# Altium footprint library Altium_Library.PcbLib: 12 footprints
Each footprint in its own frame and in the unit in brackets; x right, y up, seen from the top. Pads: shape width x height; smd on the part's side, far side on the other; paste and mask are expansions set on the pad; w line width, h text height; cw(c..) or ccw(c..) is an arc to the next point about the centre after c.
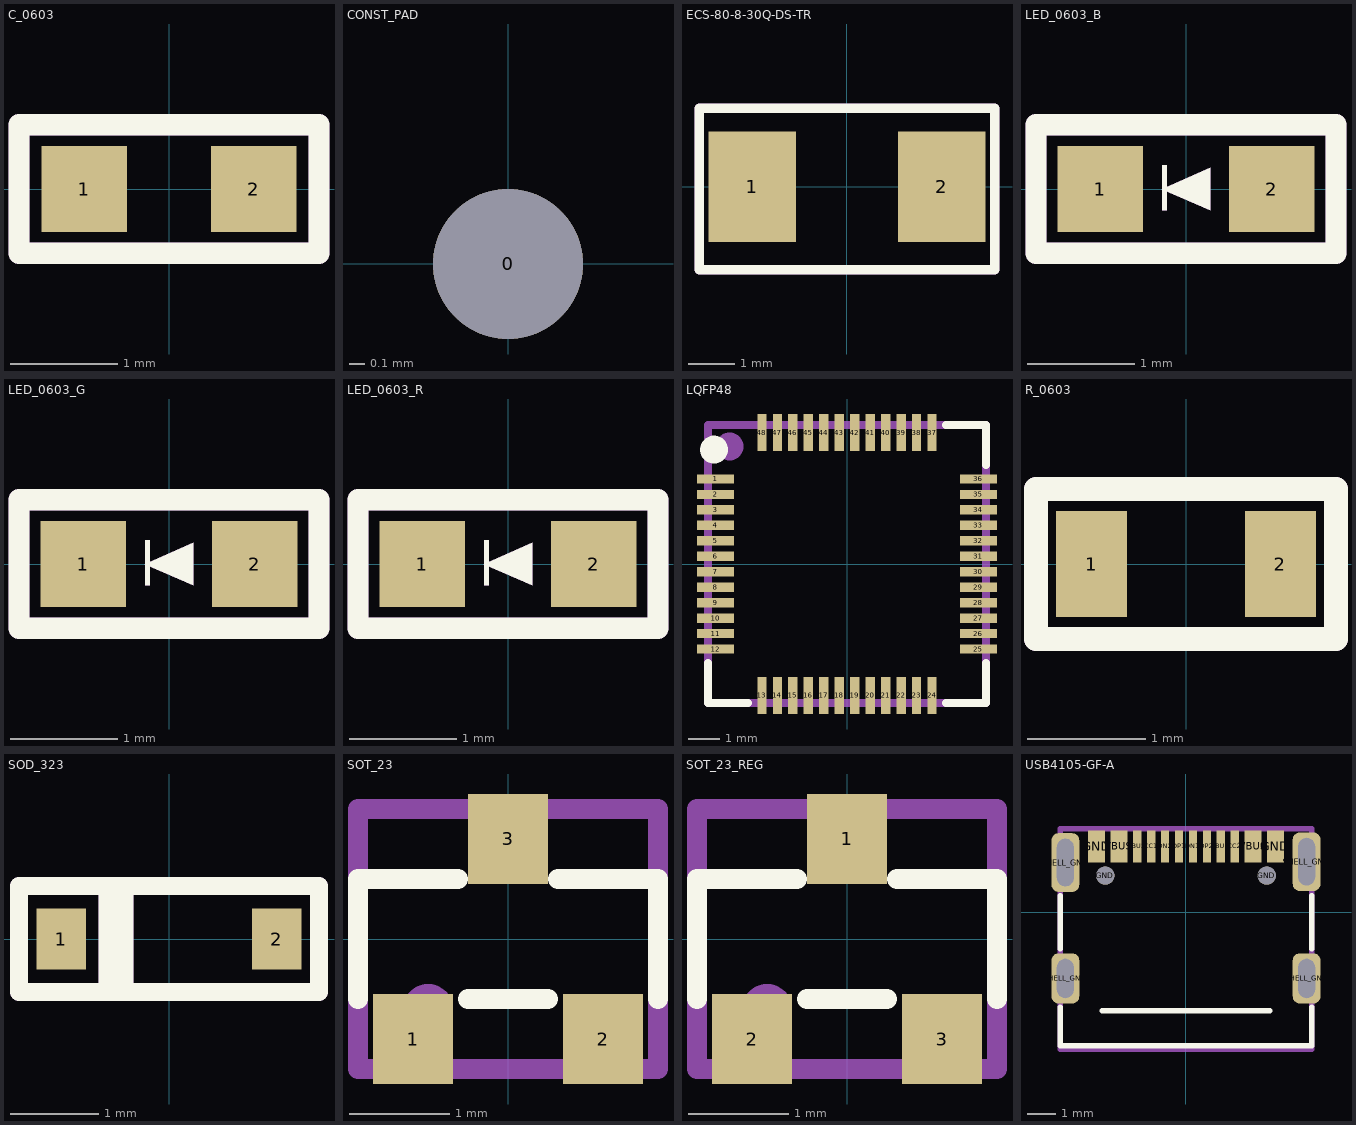
[diagram p0: the footprints below, top view; thin cyan lines are the x and y axes]

## C_0603 [mm]
pads (2):
  rect 0.8x0.8 smd: 1(-0.79,0) 2(0.79,0)
Top Overlay:
  lines w0.2: -1.4,-0.6 1.4,-0.6 1.4,0.6 -1.4,0.6 -1.4,-0.6
Top Designator:
  lines w0.2: -1.4,-0.6 1.4,-0.6 1.4,0.6 -1.4,0.6 -1.4,-0.6
  text ".Designator" at -1,-0.075 h1.2
3D body "CAPC1608X55N EIA 0603.step": height 0.55, standoff 0, extent -0.8,-0.4 0.8,0.4

## CONST_PAD [mm]
pads (1):
  round 1 hole 1: 0(0,0)
Multi-Layer:
  region: -0.5,0 0.5,0 0.5,1 0.5,1.099 0.424,1.283 0.283,1.424 0.099,1.5 -0.099,1.5 -0.283,1.424 -0.424,1.283 -0.5,1.099 -0.5,1

## ECS-80-8-30Q-DS-TR [mm]
pads (2):
  rect 1.9x2.4 smd: 1(-2.05,0) 2(2.05,0)
Top Overlay:
  lines w0.2: -3.2,-1.8 3.2,-1.8 3.2,1.7 -3.2,1.7 -3.2,-1.8
Top Designator:
  lines w0.2: -3.2,-1.8 3.2,-1.8 3.2,1.7 -3.2,1.7 -3.2,-1.8
  text ".Designator" at -1,-0.075 h1.2
3D body "ECX-64.step": height 1.1, standoff -0.01, extent -3,-1.75 3,1.75

## LED_0603_B [mm]
pads (2):
  rect 0.8x0.8 smd: 1(-0.8,0) 2(0.8,0)
Top Overlay:
  rectangle: -0.225,-0.2 -0.175,0.225
  region: 0.225,-0.2 -0.225,0 0.225,0.2
  lines w0.2: -1.4,-0.6 1.4,-0.6 1.4,0.6 -1.4,0.6 -1.4,-0.6
Top Designator:
  rectangle: -0.225,-0.2 -0.175,0.225
  region: -0.225,0 0.225,0.2 0.225,-0.2
  lines w0.2: -1.4,-0.6 1.4,-0.6 1.4,0.6 -1.4,0.6 -1.4,-0.6
  text ".Designator" at -1,-0.175 h1.2
3D body "LED_0603_B.STEP": height 0.6, standoff 0, extent -0.8,-0.4 0.8,0.4

## LED_0603_G [mm]
pads (2):
  rect 0.8x0.8 smd: 1(-0.8,0) 2(0.8,0)
Top Overlay:
  rectangle: -0.225,-0.2 -0.175,0.225
  region: 0.225,-0.2 -0.225,0 0.225,0.2
  lines w0.2: -1.4,-0.6 1.4,-0.6 1.4,0.6 -1.4,0.6 -1.4,-0.6
Top Designator:
  rectangle: -0.225,-0.2 -0.175,0.225
  region: -0.225,0 0.225,0.2 0.225,-0.2
  lines w0.2: -1.4,-0.6 1.4,-0.6 1.4,0.6 -1.4,0.6 -1.4,-0.6
  text ".Designator" at -1,-0.175 h1.2
3D body "LED_0603_G.STEP": height 0.6, standoff 0, extent -0.8,-0.4 0.8,0.4

## LED_0603_R [mm]
pads (2):
  rect 0.8x0.8 smd: 1(-0.8,0) 2(0.8,0)
Top Overlay:
  rectangle: -0.225,-0.2 -0.175,0.225
  region: 0.225,-0.2 -0.225,0 0.225,0.2
  lines w0.2: -1.4,-0.6 1.4,-0.6 1.4,0.6 -1.4,0.6 -1.4,-0.6
Top Designator:
  rectangle: -0.225,-0.2 -0.175,0.225
  region: -0.225,0 0.225,0.2 0.225,-0.2
  lines w0.2: -1.4,-0.6 1.4,-0.6 1.4,0.6 -1.4,0.6 -1.4,-0.6
  text ".Designator" at -1,-0.175 h1.2
3D body "LED_0603_R.STEP": height 0.6, standoff 0, extent -0.8,-0.4 0.8,0.4

## LQFP48 [mm]
pads (48):
  rect 1.2x0.3 smd mask+0.06: 1(-4.25,2.75) 2(-4.25,2.25) 3(-4.25,1.75) 4(-4.25,1.25) 5(-4.25,0.75) 6(-4.25,0.25) 7(-4.25,-0.25) 8(-4.25,-0.75) 9(-4.25,-1.25) 10(-4.25,-1.75) 11(-4.25,-2.25) 12(-4.25,-2.75) 25(4.25,-2.75) 26(4.25,-2.25) 27(4.25,-1.75) 28(4.25,-1.25) 29(4.25,-0.75) 30(4.25,-0.25) 31(4.25,0.25) 32(4.25,0.75) 33(4.25,1.25) 34(4.25,1.75) 35(4.25,2.25) 36(4.25,2.75)
  rect 0.3x1.2 smd mask+0.06: 13(-2.75,-4.25) 14(-2.25,-4.25) 15(-1.75,-4.25) 16(-1.25,-4.25) 17(-0.75,-4.25) 18(-0.25,-4.25) 19(0.25,-4.25) 20(0.75,-4.25) 21(1.25,-4.25) 22(1.75,-4.25) 23(2.25,-4.25) 24(2.75,-4.25) 37(2.75,4.25) 38(2.25,4.25) 39(1.75,4.25) 40(1.25,4.25) 41(0.75,4.25) 42(0.25,4.25) 43(-0.25,4.25) 44(-0.75,4.25) 45(-1.25,4.25) 46(-1.75,4.25) 47(-2.25,4.25) 48(-2.75,4.25)
Top Overlay:
  circle w0.5: c-4.3,3.7 r0.2
  lines w0.254: -4.5,-3.2 -4.5,-4.5 -3.2,-4.5 ; 3.2,-4.5 4.5,-4.5 4.5,-3.2 ; 3.2,4.5 4.5,4.5 4.5,3.2
Top Designator:
  circle w0.5: c-3.8,3.8 r0.2
  lines w0.254: -4.5,4.5 -4.5,-4.5 4.5,-4.5 4.5,4.5 -4.5,4.5 ; -4.5,4.5 -4.5,4.5
  text ".Designator" at -2.7,-0.375 h1.2
3D body "LQFP48.STEP": height 1.6, standoff 0, extent -4.5,-4.5 4.5,4.5

## R_0603 [mm]
pads (2):
  rect 0.6x0.9 smd: 1(-0.8,0) 2(0.8,0)
Top Overlay:
  lines w0.2: -1.27,-0.635 1.27,-0.635 1.27,0.635 -1.27,0.635 -1.27,-0.635
Top Designator:
  lines w0.2: -1.27,-0.635 1.27,-0.635 1.27,0.635 -1.27,0.635 -1.27,-0.635
  text ".Designator" at -0.6,-0.375 h1.2
3D body "RESC1608X50N EIA 0603.step": height 0.5, standoff 0, extent -0.8,-0.4 0.8,0.4

## SOD_323 [mm]
pads (2):
  rect 0.56x0.69 smd mask+0.06: 1(-1.22,0) 2(1.22,0)
Top Overlay:
  rectangle: -0.8,-0.6 -0.4,0.6
  lines w0.2: -1.7,-0.6 -1.7,0.6 1.7,0.6 1.7,-0.6 -1.7,-0.6
Top Designator:
  rectangle: -0.8,-0.6 -0.4,0.6
  lines w0.2: -1.7,-0.6 1.7,-0.6 1.7,0.6 -1.7,0.6 -1.7,-0.6
  text ".Designator" at -1,-0.275 h1.2
3D body "SOD323.step": height 1.1, standoff 0, extent -1.3,-0.675 1.3,0.675

## SOT_23 [mm]
pads (3):
  rect 0.8x0.9 smd mask+0.06: 1(-0.95,-1) 2(0.95,-1) 3(0,1)
Top Overlay:
  lines w0.2: -1.5,-0.6 -1.5,0.6 -0.5,0.6 ; -0.4,-0.6 0.4,-0.6 ; 0.5,0.6 1.5,0.6 1.5,-0.6
Top Designator:
  circle w0.3: c-0.8,-0.7 r0.1
  lines w0.2: -1.5,-1.3 1.5,-1.3 1.5,1.3 -1.5,1.3 -1.5,-1.3
  text ".Designator" at -0.8,-0.375 h1.2
3D body "SOT23.step": height 1.08, standoff 0, extent -1.5,-1.32 1.5,1.32

## SOT_23_REG [mm]
pads (3):
  rect 0.8x0.9 smd mask+0.06: 1(0,1) 2(-0.95,-1) 3(0.95,-1)
Top Overlay:
  lines w0.2: -1.5,-0.6 -1.5,0.6 -0.5,0.6 ; -0.4,-0.6 0.4,-0.6 ; 0.5,0.6 1.5,0.6 1.5,-0.6
Top Designator:
  circle w0.3: c-0.8,-0.7 r0.1
  lines w0.2: -1.5,-1.3 -1.5,1.3 1.5,1.3 1.5,-1.3 -1.5,-1.3
  text ".Designator" at -1.1,-0.275 h1.2
3D body "SOT23.step": height 1.08, standoff 0, extent -1.5,-1.32 1.5,1.32

## USB4105-GF-A [mm]
pads (18):
  rect 0.3x1.15 smd mask+0.06: CC1(-1.25,2.363) CC2(1.75,2.363) DN1(0.25,2.363) DN2(-0.75,2.363) DP1(-0.25,2.363) DP2(0.75,2.363) SBU1(1.25,2.363) SBU2(-1.75,2.363)
  rect 0.6x1.15 smd mask+0.06: GND(-3.2,2.363) GND(3.2,2.363) VBUS(-2.4,2.363) VBUS(2.4,2.363)
  round 0.65 hole 0.65 unplated: GND(-2.89,1.318) GND(2.89,1.318)
  rrect50% 1x1.8 hole 0.6 slot 1.4 at 90 deg: SHELL_GND(-4.32,-2.362) SHELL_GND(4.32,-2.362)
  rrect50% 1x2.1 hole 0.6 slot 1.7 at 90 deg: SHELL_GND(-4.32,1.787) SHELL_GND(4.32,1.817)
Top Overlay:
  lines w0.2: -4.5,-4.775 -4.5,-3.4 ; -4.5,-1.3 -4.5,0.6 ; -4.47,-4.775 4.47,-4.775 ; -3,-3.512 3,-3.512 ; 4.5,-4.775 4.5,-3.4 ; 4.5,-1.3 4.5,0.6
Top Designator:
  lines w0.2: -4.5,-4.9 4.5,-4.9 4.5,3 -4.5,3 -4.5,-4.9
  text ".Designator" at -2,-1.175 h1.2
3D body "USB_TYPE_C.STEP": height 3.2, standoff -1, extent -4.47,-4.9 4.47,3